# Altium schematic symbol library levin.SchLib: 19 symbols
Pins are listed as number, name and electrical type; pins without a type are passive.

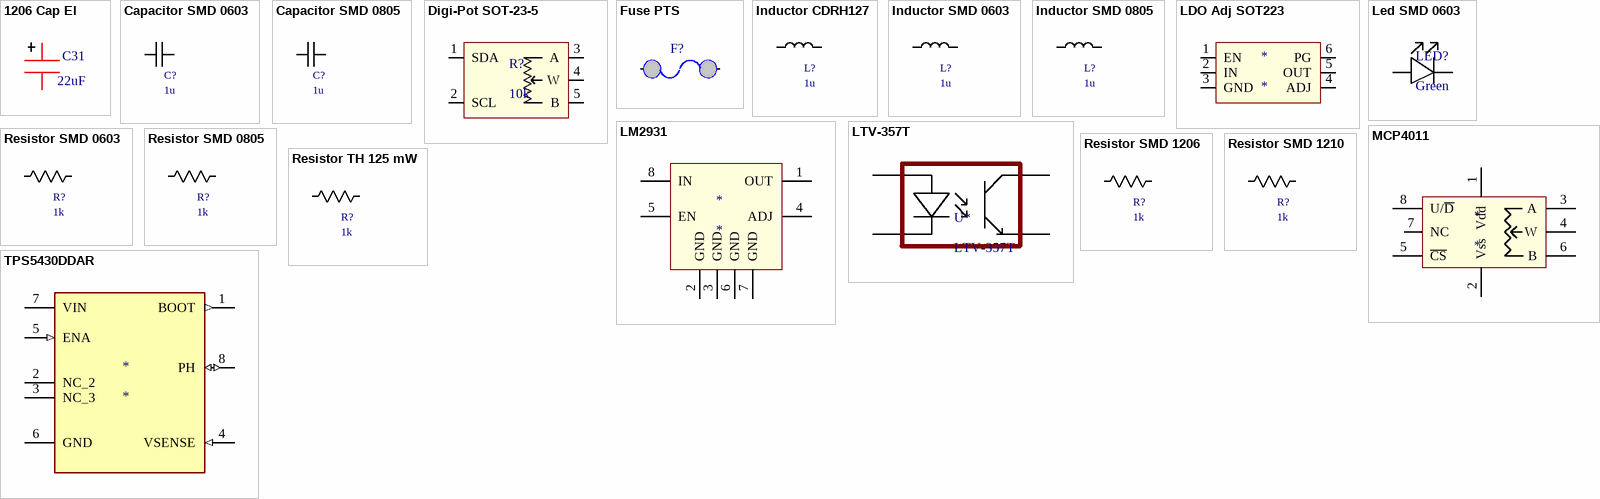
[diagram p0: symbols 1206 Cap El to TPS5430DDAR]

## 1206 Cap El
designator C31, comment 22uF
CC0805MKX5R6BB226
footprint 0805
pins: 1, 2

## Capacitor SMD 0603
designator C?, comment 1u
SMD 0603; Value: 1u
pins: 1, 2

## Capacitor SMD 0805
designator C?, comment 1u
SMD 0805; Value: 1u
pins: 1, 2

## Digi-Pot SOT-23-5
designator R?, comment 10k
SOT-23-5; Value: 10k
pins: 1 SDA (io), 2 SCL (io), 3 A, 4 W, 5 B

## Fuse PTS
designator F?, comment Resettable FUSE  (value not drawn)
MF-USMF005-2
footprint 1210
pins: 1, 2

## Inductor CDRH127
designator L?, comment 1u
SMD 0805; Value: 1u
footprint CDRH127
pins: 1, 2

## Inductor SMD 0603
designator L?, comment 1u
SMD 0603; Value: 1u
pins: 1, 2

## Inductor SMD 0805
designator L?, comment 1u
SMD 0805; Value: 1u
pins: 1, 2

## LDO Adj SOT223
designator *
pins: 1 EN, 2 IN, 3 GND, 4 ADJ, 5 OUT, 6 PG

## Led SMD 0603
designator LED?, comment Green
Value: Green
pins: Anode A, Cathode C

## LM2931
designator *
pins: 1 OUT, 2 GND, 3 GND, 4 ADJ, 5 EN, 6 GND, 7 GND, 8 IN

## LTV-357T
designator U*
footprint SOP-4; pin to pad Anode>1 Cathode>2 Collector>4 Emmiter>3
pins: Anode A, Cathode C, Collector C, Emmiter E

## MCP4011
designator *
pins: 1 Vdd, 2 Vss, 3 A, 4 W, 5 ~{CS}, 6 B, 7 NC, 8 U/~{D}

## Resistor SMD 0603
designator R?, comment 1k
SMD 0603; Value: 1k

## Resistor SMD 0805
designator R?, comment 1k
SMD 0805; Value: 1k
footprint CC1202-0805
3D model SMT_0805 (PCB3D Model)

## Resistor SMD 1206
designator R?, comment 1k
SMD 1206; Value: 1k

## Resistor SMD 1210
designator R?, comment 1k
SMD 1210; Value: 1k

## Resistor TH 125 mW
designator R?, comment 1k
TH 125 mW; Value: 1k

## TPS5430DDAR
designator *
pins: 1 BOOT (out), 2 NC_2, 3 NC_3, 4 VSENSE (in), 5 ENA (in), 6 GND (power), 7 VIN (power), 8 PH (io)